# Altium schematic symbol library A20_DVK1_BASE_V16_V162.SCHLIB: 63 symbols
Pins are listed as number, name and electrical type; pins without a type are passive.

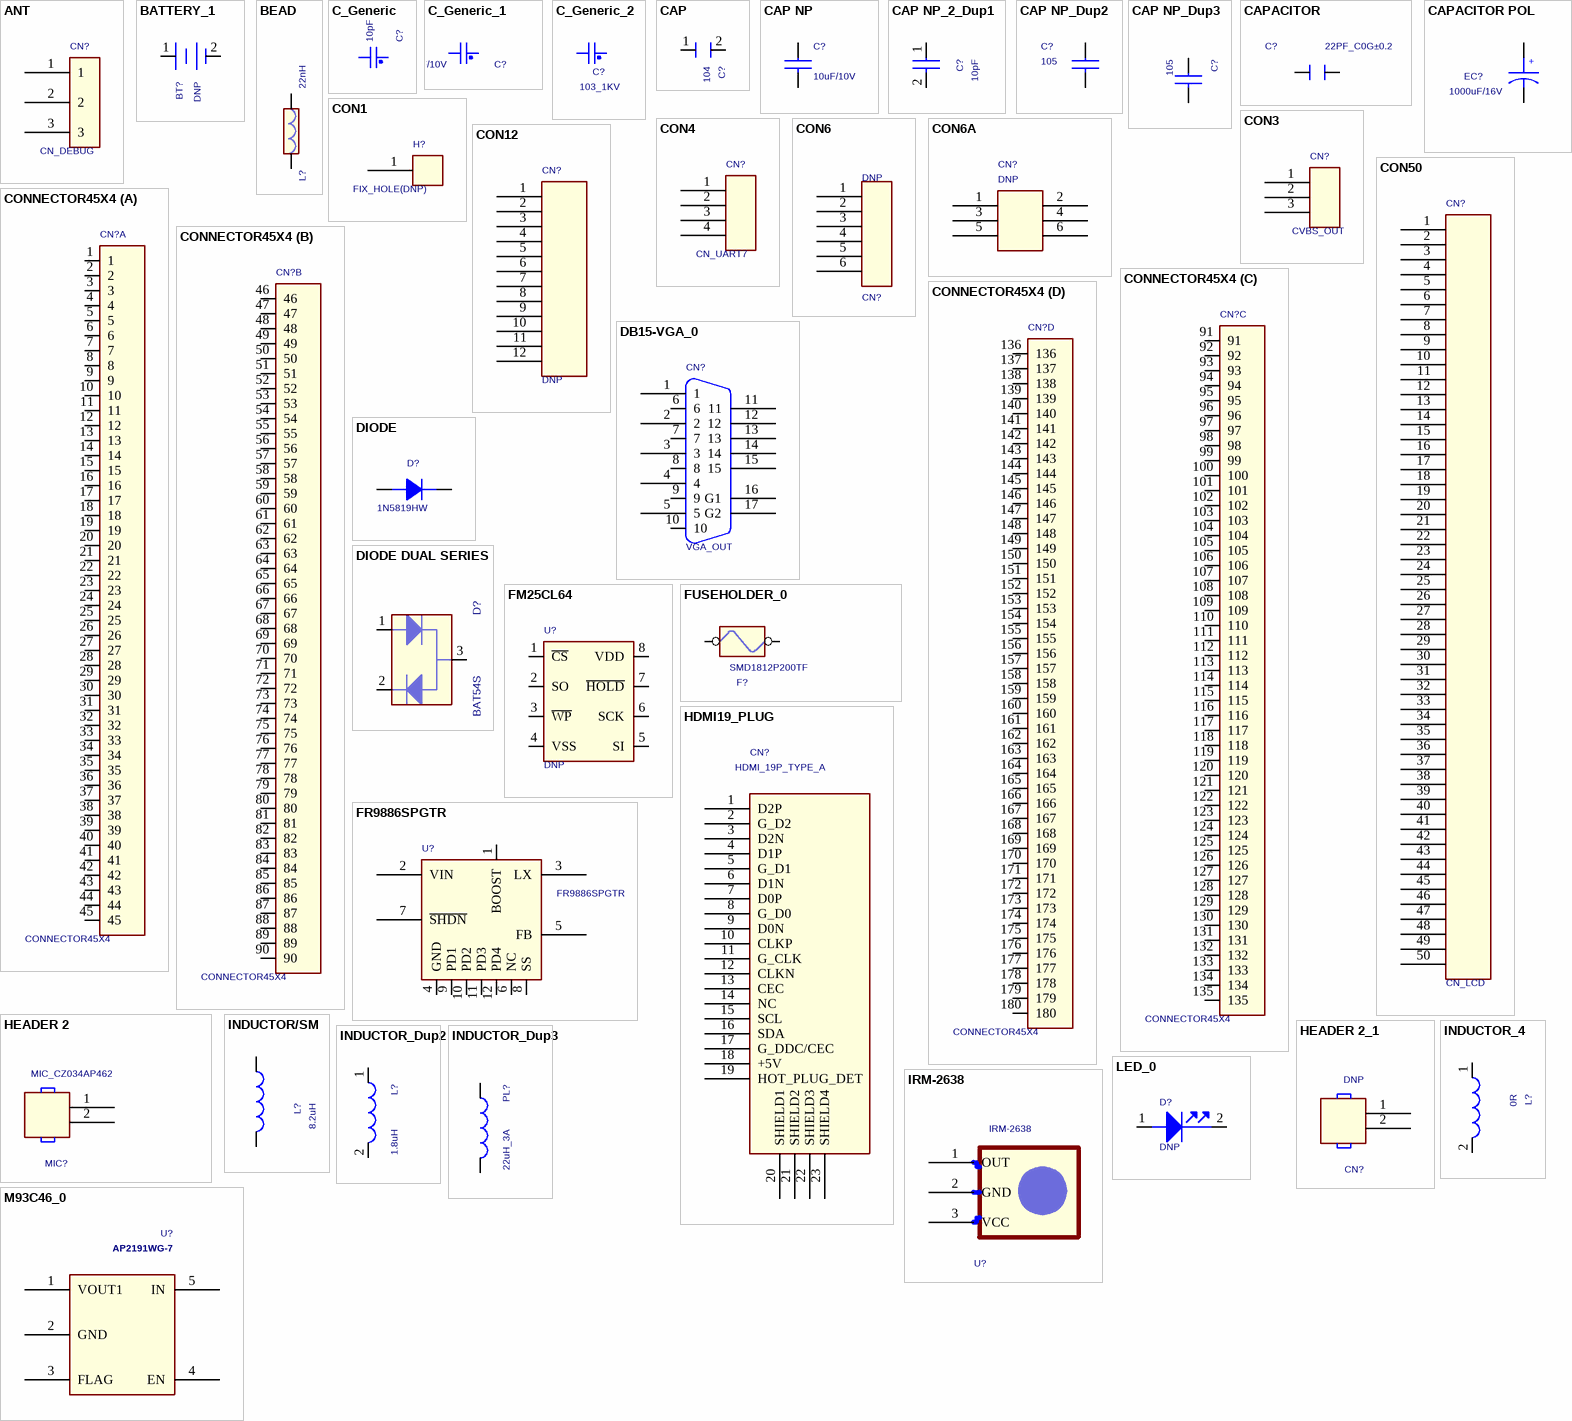
[diagram p0: symbols ANT to M93C46_0]

## ANT
designator CN?, comment CN_DEBUG
footprint HEADER_PIN_SIP3_2MM54
pins: 1, 2, 3

## BATTERY_1
designator BT?, comment DNP
footprint BATTERY_CR1225
pins: 1, 2

## BEAD
designator L?, comment 22nH
SDTSourceLibName: C:\WINDOWS\TEMP\SNDS.LIB
footprint L0603
pins: 1, 2

## C_Generic
designator C?, comment 10pF
Dielectric: X7R; Mfg #1: KEMET; Voltage: 16V; P/N #1: C0603C104K4RAC; Toler.: 10%; VAL: 100nF; REF: C1608X7R1C104KT; FAB: TDK; DEV: C0603; DESIG: Ceramic Capacitor; BOI: 0603; TOL: 10%; TEN: 16V
footprint CAP0805
footprint C0603
pins: 1, 2

## C_Generic_1
designator C?, comment 47uF/10V
Dielectric: X7R; Mfg #1: KEMET; Voltage: 16V; P/N #1: C0603C104K4RAC; Toler.: 10%; VAL: 100nF; REF: C1608X7R1C104KT; FAB: TDK; DEV: C0603; DESIG: Ceramic Capacitor; BOI: 0603; TOL: 10%; TEN: 16V
footprint CAP0805
footprint C1206
pins: 1, 2

## C_Generic_2
designator C?, comment 103_1KV
Dielectric: X7R; Mfg #1: KEMET; Voltage: 16V; P/N #1: C0603C104K4RAC; Toler.: 10%; VAL: 100nF; REF: C1608X7R1C104KT; FAB: TDK; DEV: C0603; DESIG: Ceramic Capacitor; BOI: 0603; TOL: 10%; TEN: 16V
footprint CAP0805
footprint C1210
pins: 1, 2

## CAP
designator C?, comment 104
footprint 0805
footprint C0603
pins: 1, 2

## CAP NP
designator C?, comment 10uF/10V
贴片电容,Y5V,6.3V,2.2uF,+80%-20%,0603; Part Number: 310720225530; Param: 6.3V; Package: 0603; Part Type: Y5V; TOL: +80%-20%
footprint C0603
pins: 1, 2

## CAP NP_2_Dup1
designator C?, comment 10pF
X5R
footprint C0603
pins: 1, 2

## CAP NP_Dup2
designator C?, comment 105
0402 1uF X5R 6.3V +/-10%; PART_NUMBER: GRM155R60J105KE19D; Part Number: GRM155R60J105KE19/C0402B105K006AT/CC0402KRX5R5BB105; Vendor: MURATA/YIXING/YAGEO; SPREADWIN PN: C0100025A/C0100025D/C0100025B
footprint C0603
pins: 1, 2

## CAP NP_Dup3
designator C?, comment 105
0402 1uF X5R 6.3V +/-10%; PART NUMBER: GRM155R60J105KE19/C0402B105K006AT/CC0402KRX5R5BB105; Vendor: MURATA/YIXING/YAGEO; SPREADWIN PN: C0100025A/C0100025D/C0100025B
footprint C0603
pins: 1, 2

## CAPACITOR
designator C?, comment 22PF_C0G±0.2
footprint C0603
pins: 1, 2

## CAPACITOR POL
designator EC?, comment 1000uF/16V
footprint EC_SMD_R10MM_H10MM5
pins: 1, 2
text: +

## CON1
designator H?, comment FIX_HOLE(DNP)
footprint HOLE_6MM_3MM5
pins: 1

## CON3
designator CN?, comment CVBS_OUT
footprint JACK_RCA-105K
pins: 1, 2, 3

## CON4
designator CN?, comment CN_UART7
footprint CON_SIP4BOX_2MM
pins: 1, 2, 3, 4

## CON6
designator CN?, comment DNP
footprint CON_SIP6BOX_2MM
pins: 1, 2, 3, 4, 5, 6

## CON6A
designator CN?, comment DNP
footprint HEADER_PIN_DIP3X2_2MM54
pins: 1, 2, 3, 4, 5, 6

## CON12
designator CN?, comment DNP
footprint HEADER_PIN_DIP6X2_2MM54
pins: 1, 2, 3, 4, 5, 6, 7, 8, 9, 10, 11, 12

## CON50
designator CN?, comment CN_LCD
footprint HEADER_BOX_DIP25X2_2MM
pins: 1, 2, 3, 4, 5, 6, 7, 8, 9, 10, 11, 12, 13, 14, 15, 16, 17, 18, 19, 20, 21, 22, 23, 24, 25, 26, 27, 28, 29, 30, 31, 32, 33, 34, 35, 36, 37, 38, 39, 40, 41, 42, 43, 44, 45, 46, 47, 48, 49, 50

## CONNECTOR45X4
designator CN?
footprint CONNECTOR45X4_SMT_V32
part A pins: 1, 2, 3, 4, 5, 6, 7, 8, 9, 10, 11, 12, 13, 14, 15, 16, 17, 18, 19, 20, 21, 22, 23, 24, 25, 26, 27, 28, 29, 30, 31, 32, 33, 34, 35, 36, 37, 38, 39, 40, 41, 42, 43, 44, 45
part B pins: 46, 47, 48, 49, 50, 51, 52, 53, 54, 55, 56, 57, 58, 59, 60, 61, 62, 63, 64, 65, 66, 67, 68, 69, 70, 71, 72, 73, 74, 75, 76, 77, 78, 79, 80, 81, 82, 83, 84, 85, 86, 87, 88, 89, 90
part C pins: 91, 92, 93, 94, 95, 96, 97, 98, 99, 100, 101, 102, 103, 104, 105, 106, 107, 108, 109, 110, 111, 112, 113, 114, 115, 116, 117, 118, 119, 120, 121, 122, 123, 124, 125, 126, 127, 128, 129, 130, 131, 132, 133, 134, 135
part D pins: 136, 137, 138, 139, 140, 141, 142, 143, 144, 145, 146, 147, 148, 149, 150, 151, 152, 153, 154, 155, 156, 157, 158, 159, 160, 161, 162, 163, 164, 165, 166, 167, 168, 169, 170, 171, 172, 173, 174, 175, 176, 177, 178, 179, 180

## DB15-VGA_0
designator CN?, comment VGA_OUT
footprint CON_DB15LF_FEMALE_RAS
pins: 1, 2, 3, 4, 5, 6, 7, 8, 9, 10, 11, 12, 13, 14, 15, 16 G1, 17 G2

## DIODE
designator D?, comment 1N5819HW
footprint SOD123_POWER
pins: 1 ANODE, 2 CATHODE

## DIODE DUAL SERIES
designator D?, comment BAT54S
footprint S-Mini 3P
footprint SOT-23
pins: 1 ANODE, 2 CATHODE, 3 COM

## FM25CL64
designator U?, comment DNP
footprint SO8W
pins: 1 ~{CS}, 2 SO, 3 ~{WP}, 4 VSS, 5 SI, 6 SCK, 7 ~{HOLD}, 8 VDD

## FR9886SPGTR
designator U?
footprint MP1484_SOIC8N
pins: 1 BOOST, 2 VIN, 3 LX, 4 GND, 5 FB, 6 NC, 7 ~{SHDN}, 8 SS, 9 PD1, 10 PD2, 11 PD3, 12 PD4

## FUSEHOLDER_0
designator F?, comment SMD1812P200TF
footprint FUSE1812
pins: 1, 2

## HDMI19_PLUG
designator CN?, comment HDMI_19P_TYPE_A
footprint HDMI
footprint CON_HDMI_MOLEX_19
pins: 1 D2P, 2 G_D2, 3 D2N, 4 D1P, 5 G_D1, 6 D1N, 7 D0P, 8 G_D0, 9 D0N, 10 CLKP, 11 G_CLK, 12 CLKN, 13 CEC, 14 NC, 15 SCL, 16 SDA, 17 G_DDC/CEC, 18 +5V, 19 HOT_PLUG_DET, 20 SHIELD1, 21 SHIELD2, 22 SHIELD3, 23 SHIELD4

## HEADER 2
designator MIC?, comment MIC_CZ034AP462
footprint MIC_CZ034AP462
pins: 1, 2

## HEADER 2_1
designator CN?, comment DNP
footprint CON_SIP2BOX_2MM54
pins: 1, 2

## INDUCTOR/SM
designator L?, comment 8.2uH
footprint L0603
pins: 1, 2

## INDUCTOR_4
designator L?, comment 0R
C4K-2.5H
footprint L0603
pins: 1, 2

## INDUCTOR_Dup2
designator L?, comment 1.8uH
footprint L0603
pins: 1, 2

## INDUCTOR_Dup3
designator PL?, comment 22uH_3A
footprint PL_10X10
pins: 1, 2

## IRM-2638
designator U?
footprint IRM-2638
pins: 1 OUT, 2 GND, 3 VCC

## LED_0
designator D?, comment DNP
footprint LED0603
pins: 1 ANODE, 2 CATHODE

## M93C46_0
designator U?, comment AP2191WG-7
footprint SOT-23-5
pins: 1 VOUT1, 2 GND, 3 FLAG, 4 EN, 5 IN

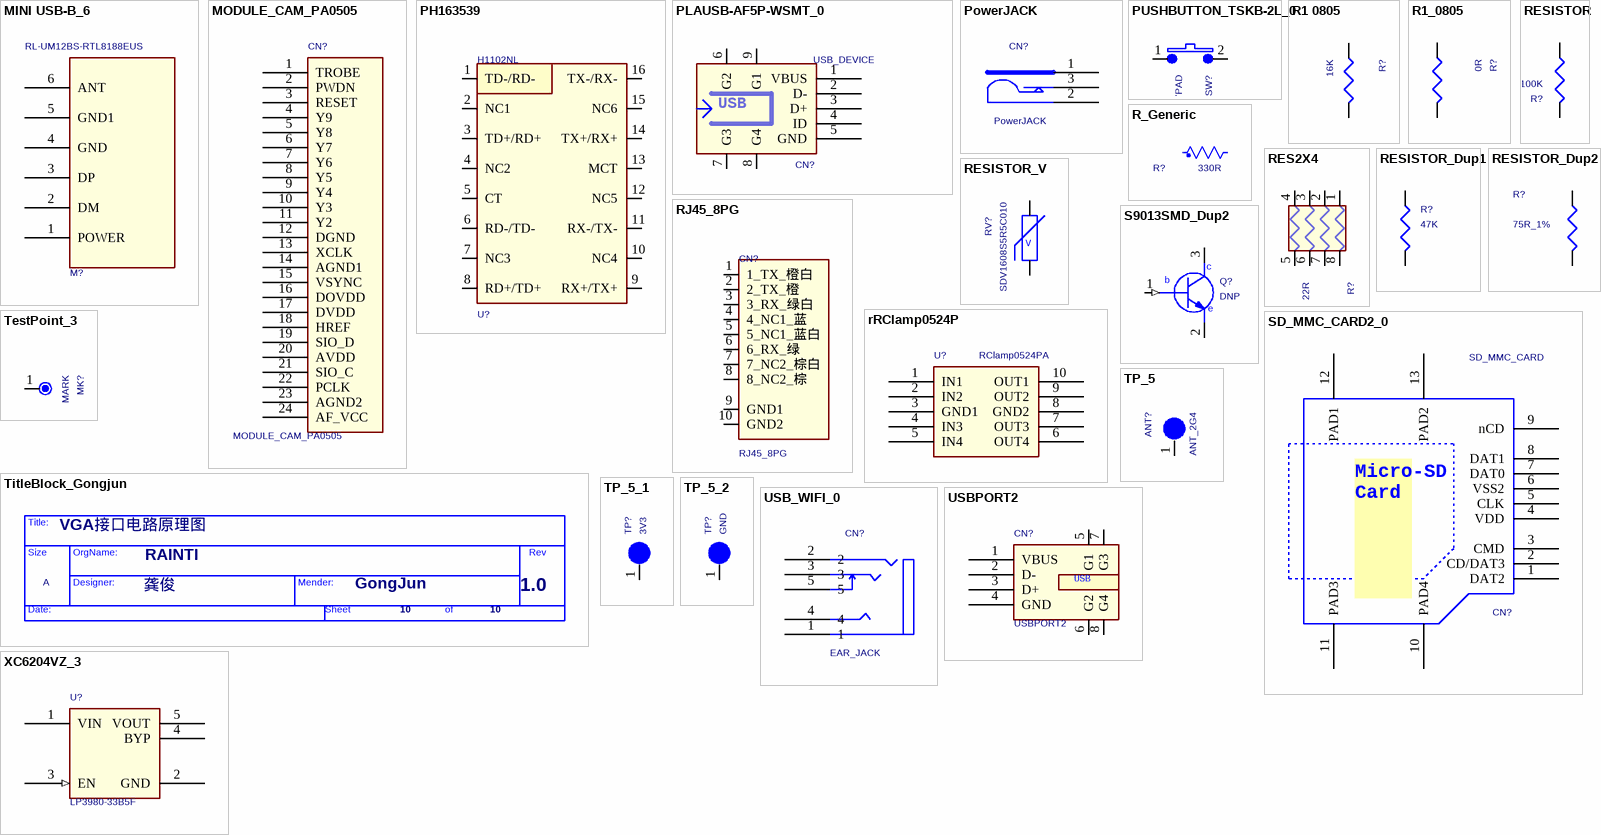
[diagram p1: symbols MINI USB-B_6 to XC6204VZ_3]

## MINI USB-B_6
designator M?, comment RL-UM12BS-RTL8188EUS
footprint RL-UM12BS
pins: 1 POWER, 2 DM, 3 DP, 4 GND, 5 GND1, 6 ANT

## MODULE_CAM_PA0505
designator CN?
footprint CON_FPC24_OV9653
pins: 1 TROBE, 2 PWDN, 3 RESET, 4 Y9, 5 Y8, 6 Y7, 7 Y6, 8 Y5, 9 Y4, 10 Y3, 11 Y2, 12 DGND, 13 XCLK, 14 AGND1, 15 VSYNC, 16 DOVDD, 17 DVDD, 18 HREF, 19 SIO_D, 20 AVDD, 21 SIO_C, 22 PCLK, 23 AGND2, 24 AF_VCC

## PH163539
designator U?, comment H1102NL
footprint PH163539
pins: 1 TD-/RD-, 2 NC1, 3 TD+/RD+, 4 NC2, 5 CT, 6 RD-/TD-, 7 NC3, 8 RD+/TD+, 9 RX+/TX+, 10 NC4, 11 RX-/TX-, 12 NC5, 13 MCT, 14 TX+/RX+, 15 NC6, 16 TX-/RX-

## PLAUSB-AF5P-WSMT_0
designator CN?, comment USB_DEVICE
footprint PLAUSB-AF5P-WSMT
footprint CON_MINIUSB_5_SMD
pins: 1 VBUS, 2 D-, 3 D+, 4 ID, 5 GND, 6 G2, 7 G3, 8 G4, 9 G1
text: USB

## PowerJACK
designator CN?
footprint JACK_POWER_DC-005
pins: 1, 2, 3

## PUSHBUTTON_TSKB-2L_0
designator SW?, comment KEYPAD
footprint TSKB-2L
footprint SWITCH_T06B
pins: 1, 2

## R1 0805
designator R?, comment 16K
footprint 0805
footprint R0603
pins: 1, 2

## R1_0805
designator R?, comment 0R
footprint 0805
footprint R0603
pins: 1, 2

## R_Generic
designator R?, comment 330R
P/N #1: CR10-1001F-T; TOL: 5%; VAL: 1R; REF: RC0603JR-071RL; FAB: YAGEO; DEV: R0603; DESIG: RC21 5%; BOI: 0603
footprint R0603
pins: 1, 2

## RES2X4
designator R?, comment 22R
SDTSourceLibName: C:\WINDOWS\TEMP\SNDS.LIB
footprint RA4_0603
pins: 1, 2, 3, 4, 5, 6, 7, 8

## RESISTOR
designator R?, comment 100K
footprint R0603
pins: 1, 2

## RESISTOR_Dup1
designator R?, comment 47K
footprint R0603
pins: 1, 2

## RESISTOR_Dup2
designator R?, comment 75R_1%
ROOM: TVLCD
footprint R0603
pins: 1, 2

## RESISTOR_V
designator RV?, comment SDV1608S5R5C010
footprint R0603
pins: 1, 2
text: V

## RJ45_8PG
designator CN?
footprint RJ-45A
pins: 1 1_TX_橙白, 2 2_TX_橙, 3 3_RX_绿白, 4 4_NC1_蓝, 5 5_NC1_蓝白, 6 6_RX_绿, 7 7_NC2_棕白, 8 8_NC2_棕, 9 GND1, 10 GND2

## rRClamp0524P
designator U?, comment RClamp0524PA
footprint RClamp0524PA_SLP2510P8
pins: 1 IN1, 2 IN2, 3 GND1, 4 IN3, 5 IN4, 6 OUT4, 7 OUT3, 8 GND2, 9 OUT2, 10 OUT1

## S9013SMD_Dup2
designator Q?, comment DNP
footprint SOT-23
pins: 1 B (in), 2 E, 3 C
text: c; b; e

## SD_MMC_CARD2_0
designator CN?, comment VAL: SD_MMC_CARD  (hidden comment: Micro_SD_CARD)
DEV: CON-FPS009-3203; DESIG: MMC/SD CARD CONNECTOR; REF: FPS009-3203; BOI: NA; FAB: YAMACHI
footprint SOCKET_TF_SK10056619
pins: 1 DAT2, 2 CD/DAT3, 3 CMD, 4 VDD, 5 CLK, 6 VSS2, 7 DAT0, 8 DAT1, 9 nCD, 10 PAD4, 11 PAD3, 12 PAD1, 13 PAD2
text: Micro-SD / Card

## TestPoint_3
designator MK?, comment MARK
footprint MARK
pins: 1

## TitleBlock_Gongjun
designator *?  Doc: 龚俊  RevCode: 1.0  OrgName: RAINTI  OrgAddr1: GongJun  OrgAddr4: VGA接口电路原理图  Page Size: A  Page Number: 10  (hidden comment: TitleBlock_Gongjun)  (graphical)
Page Create Date: March  8, 1995; Page Count: 10
text: Title:; Size; OrgName:; Rev; Designer:; Mender:; Date:; Sheet; of

## TP_5
designator ANT?, comment ANT_2G4
footprint TP
footprint ANT_PIFA_2G4_J
pins: 1 TP

## TP_5_1
designator TP?, comment 3V3
footprint TP
footprint TP_1MM3
pins: 1 TP

## TP_5_2
designator TP?, comment GND
footprint TP
footprint HOLE_1MM2_0MM9
pins: 1 TP

## USB_WIFI_0
designator CN?, comment EAR_JACK
footprint JACK_EARPHONE_PJ-327F
pins: 1, 2, 3, 4, 5

## USBPORT2
designator CN?
footprint CON_USB_A1_FEMALE_SIDE
pins: 1 VBUS, 2 D-, 3 D+, 4 GND, 5 G1, 6 G2, 7 G3, 8 G4
text: USB

## XC6204VZ_3
designator U?, comment LP3980-33B5F
LDO 3.3V 300mA( SOT-25 ); PART NUMBER: PAM3101DAB330/LN1134A332MR; SPREADWIN PN: U5000028A/LS000038; Vendor: PAM/NANLIN
footprint SOT-25
footprint SOT-23-5
pins: 1 VIN (power), 2 GND (power), 3 EN (in), 4 BYP, 5 VOUT (power)